# Altium footprint library LED0805.PcbLib: 1 footprints
Each footprint in its own frame and in the unit in brackets; x right, y up, seen from the top. Pads: shape width x height; smd on the part's side, far side on the other; paste and mask are expansions set on the pad; w line width, h text height; cw(c..) or ccw(c..) is an arc to the next point about the centre after c.
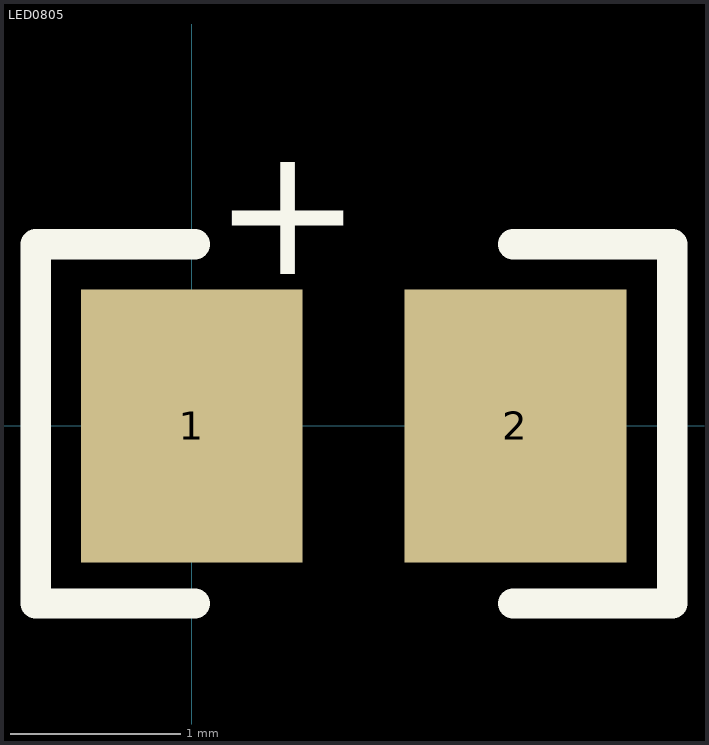
[diagram p0: the footprint, top view; thin cyan lines are the x and y axes]

## LED0805 [mm]
pads (2):
  rect 1.3x1.6 smd: 1(0,0) 2(1.9,0)
Top Overlay:
  lines w0.178: 0.019,-1.041 -0.914,-1.041 -0.914,1.067 0.019,1.067 ; 1.886,-1.041 2.819,-1.041 2.819,1.067 1.886,1.067
  text "+" at 0.127,0.889 h0.76